# Altium integrated library NSC Switcher.IntLib: 2027 symbols (part 32 of 54)
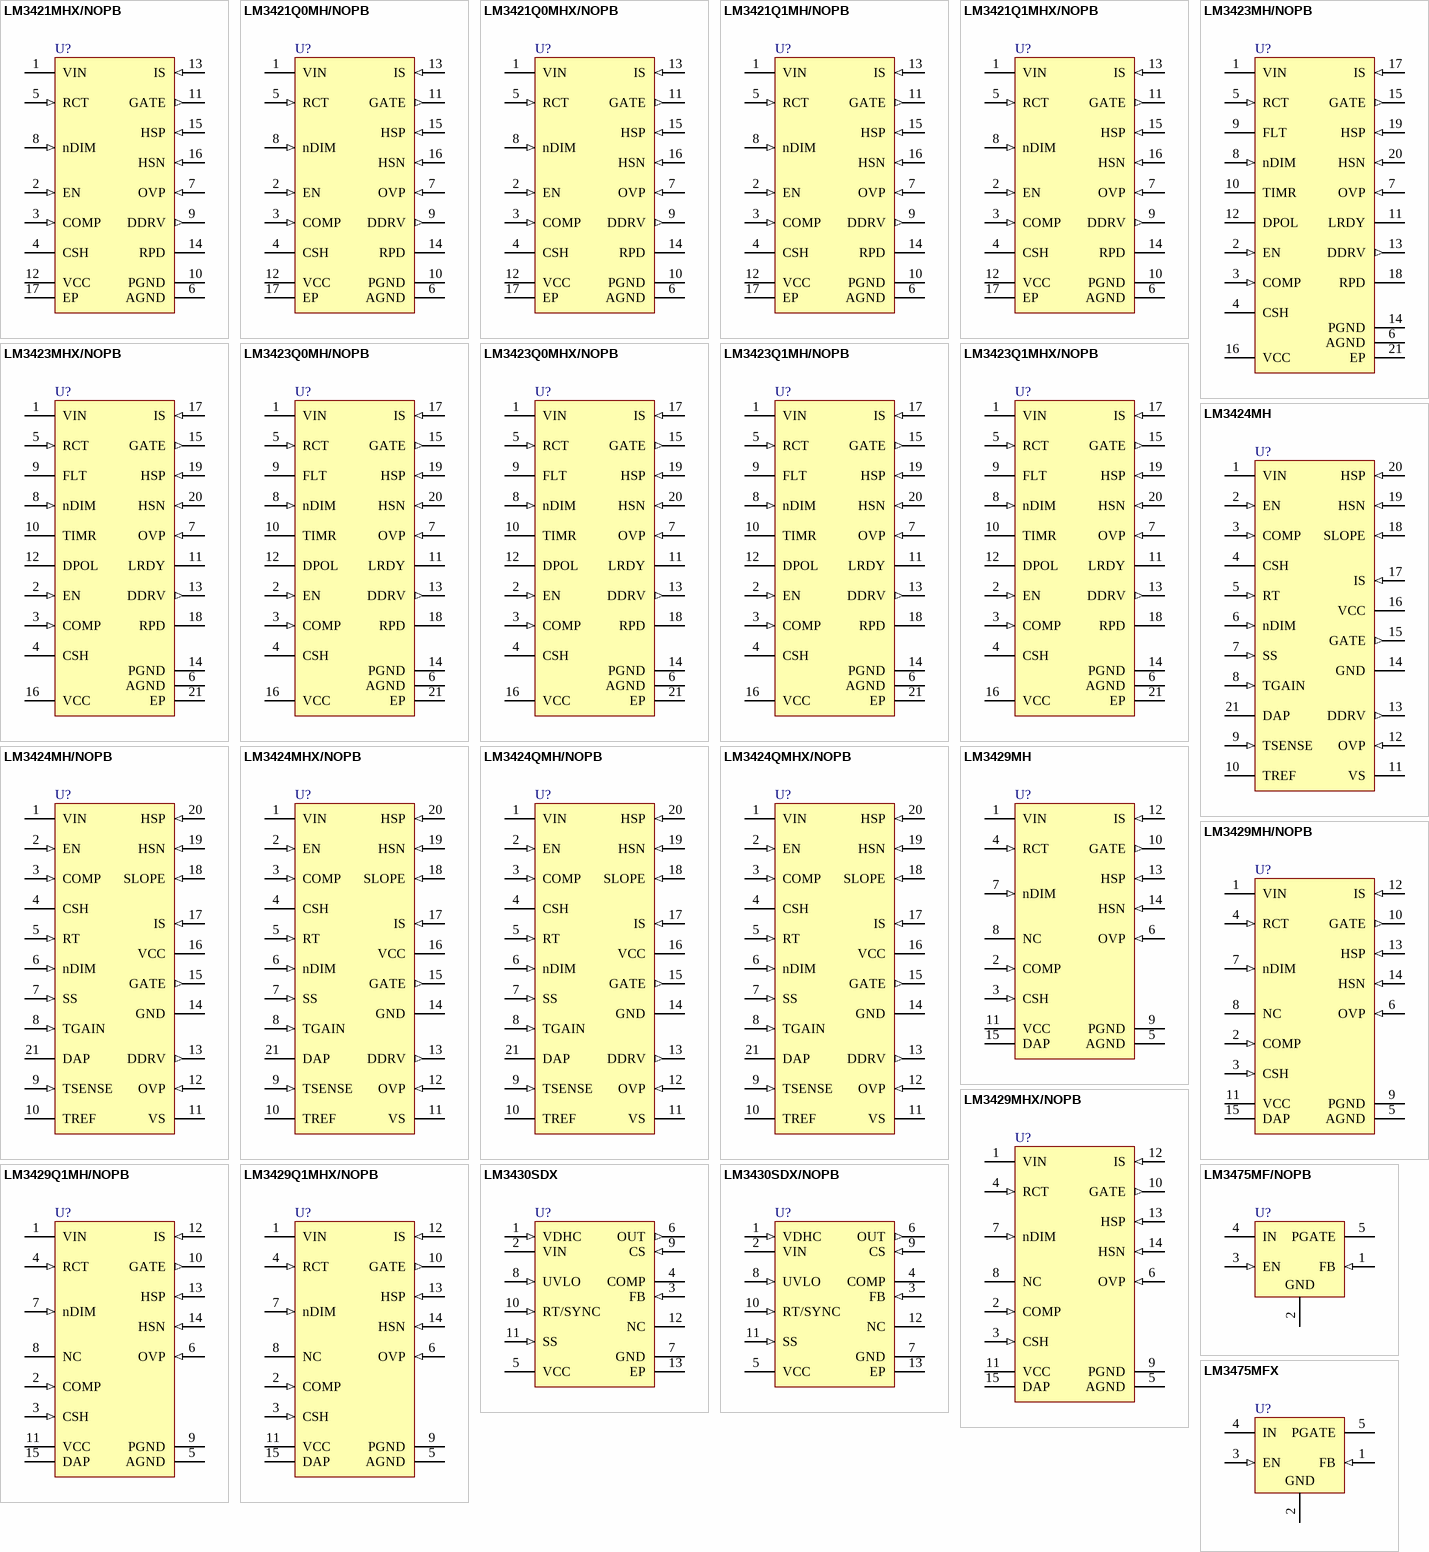
[diagram p94: symbols LM3421MHX/NOPB to LM3475MFX]

## LM3424MHX/NOPB
designator U?
Constant Current N-Channel Controller with Thermal Foldback for Driving LEDs, 20-pin TSSOP-EP, Pb-Free; PartNumber: LM3424MHX/NOPB; Manufacturer: National Semiconductor; PackageTopMarking: NSUZXYTT*LM3424*MH; PowerWise: Y; CompType: Switcher; Published: 1-Mar-2010; DatasheetVersion: Oct-2009; PackageVersion: revC, Jul-2006; PackageReference: MXA20A; Publisher: Altium Limited; PackageDescription: Molded TSSOP, Jedec, 6.5 x 4.4 x 0.9mm Body, 20 Lead, 0.65mm Pitch, Exposed Pad; Supplier 1: Digi-Key; Supplier Part Number 1: LM3424MHX-ND; RoHS: Y; PinCount: 20; Code_JEDEC: MO-153-ACT; ComponentLink1Description: LM3424 Datasheet; ComponentLink1URL: http://www.national.com/ds/LM/LM3424.pdf; ComponentLink2Description: LM3424 Web Page; ComponentLink2URL: http://www.national.com/pf/LM/LM3424.html; ComponentLink3Description: MXA20A Package Page; ComponentLink3URL: http://www.national.com/packaging/folders/mxa20a.html
footprint MXA20A_N (TSOP, 20-Leads, Body 6.5x4.4mm, Pitch 0.65mm, Exposed Pad, IPC Medium Density)
footprint MXA20A_L (TSOP, 20-Leads, Body 6.5x4.4mm, Pitch 0.65mm, Exposed Pad, IPC High Density)
footprint MXA20A_M (TSOP, 20-Leads, Body 6.5x4.4mm, Pitch 0.65mm, Exposed Pad, IPC Low Density)
pins: 1 VIN (power), 2 EN (in), 3 COMP (in), 4 CSH, 5 RT (in), 6 nDIM (in), 7 SS (in), 8 TGAIN (in), 9 TSENSE (in), 10 TREF, 11 VS (power), 12 OVP (in), 13 DDRV (out), 14 GND (power), 15 GATE (out), 16 VCC (power), 17 IS (in), 18 SLOPE (in), 19 HSN (in), 20 HSP (in), 21 DAP (power)

## LM3424QMH/NOPB
designator U?
Constant Current N-Channel Controller with Thermal Foldback for Driving LEDs, 20-pin TSSOP-EP, Pb-Free; PartNumber: LM3424QMH/NOPB; Manufacturer: National Semiconductor; PackageTopMarking: NSUZXYTT*LM3424*QMH; PowerWise: Y; CompType: Switcher; Published: 1-Mar-2010; DatasheetVersion: Oct-2009; PackageVersion: revC, Jul-2006; PackageReference: MXA20A; Publisher: Altium Limited; PackageDescription: Molded TSSOP, Jedec, 6.5 x 4.4 x 0.9mm Body, 20 Lead, 0.65mm Pitch, Exposed Pad; Supplier 1: Digi-Key; Supplier Part Number 1: LM3424QMH-ND; RoHS: Y; PinCount: 20; Code_JEDEC: MO-153-ACT; ComponentLink1Description: LM3424 Datasheet; ComponentLink1URL: http://www.national.com/ds/LM/LM3424.pdf; ComponentLink2Description: LM3424 Web Page; ComponentLink2URL: http://www.national.com/pf/LM/LM3424.html; ComponentLink3Description: MXA20A Package Page; ComponentLink3URL: http://www.national.com/packaging/folders/mxa20a.html
footprint MXA20A_N (TSOP, 20-Leads, Body 6.5x4.4mm, Pitch 0.65mm, Exposed Pad, IPC Medium Density)
footprint MXA20A_L (TSOP, 20-Leads, Body 6.5x4.4mm, Pitch 0.65mm, Exposed Pad, IPC High Density)
footprint MXA20A_M (TSOP, 20-Leads, Body 6.5x4.4mm, Pitch 0.65mm, Exposed Pad, IPC Low Density)
pins: 1 VIN (power), 2 EN (in), 3 COMP (in), 4 CSH, 5 RT (in), 6 nDIM (in), 7 SS (in), 8 TGAIN (in), 9 TSENSE (in), 10 TREF, 11 VS (power), 12 OVP (in), 13 DDRV (out), 14 GND (power), 15 GATE (out), 16 VCC (power), 17 IS (in), 18 SLOPE (in), 19 HSN (in), 20 HSP (in), 21 DAP (power)

## LM3424QMHX/NOPB
designator U?
Constant Current N-Channel Controller with Thermal Foldback for Driving LEDs, 20-pin TSSOP-EP, Pb-Free; PartNumber: LM3424QMHX/NOPB; Manufacturer: National Semiconductor; PackageTopMarking: NSUZXYTT*LM3424*QMH; PowerWise: Y; CompType: Switcher; Published: 1-Mar-2010; DatasheetVersion: Oct-2009; PackageVersion: revC, Jul-2006; PackageReference: MXA20A; Publisher: Altium Limited; PackageDescription: Molded TSSOP, Jedec, 6.5 x 4.4 x 0.9mm Body, 20 Lead, 0.65mm Pitch, Exposed Pad; Supplier 1: Digi-Key; Supplier Part Number 1: LM3424QMHX-ND; RoHS: Y; PinCount: 20; Code_JEDEC: MO-153-ACT; ComponentLink1Description: LM3424 Datasheet; ComponentLink1URL: http://www.national.com/ds/LM/LM3424.pdf; ComponentLink2Description: LM3424 Web Page; ComponentLink2URL: http://www.national.com/pf/LM/LM3424.html; ComponentLink3Description: MXA20A Package Page; ComponentLink3URL: http://www.national.com/packaging/folders/mxa20a.html
footprint MXA20A_N (TSOP, 20-Leads, Body 6.5x4.4mm, Pitch 0.65mm, Exposed Pad, IPC Medium Density)
footprint MXA20A_L (TSOP, 20-Leads, Body 6.5x4.4mm, Pitch 0.65mm, Exposed Pad, IPC High Density)
footprint MXA20A_M (TSOP, 20-Leads, Body 6.5x4.4mm, Pitch 0.65mm, Exposed Pad, IPC Low Density)
pins: 1 VIN (power), 2 EN (in), 3 COMP (in), 4 CSH, 5 RT (in), 6 nDIM (in), 7 SS (in), 8 TGAIN (in), 9 TSENSE (in), 10 TREF, 11 VS (power), 12 OVP (in), 13 DDRV (out), 14 GND (power), 15 GATE (out), 16 VCC (power), 17 IS (in), 18 SLOPE (in), 19 HSN (in), 20 HSP (in), 21 DAP (power)

## LM3429MH
designator U?
N-Channel Controller for Constant Current LED Drivers, 14-pin TSSOP-EP; PartNumber: LM3429MH; Manufacturer: National Semiconductor; PackageTopMarking: NSUZXYTT*LM3429*MH; PowerWise: Y; CompType: Switcher; Published: 9-Oct-2009; DatasheetVersion: Jan-2010; PackageVersion: revA, Feb-2003; PackageReference: MXA14A; Publisher: Altium Limited; PackageDescription: Molded TSSOP, JEDEC, Exposed Pad, 5.0 x 4.4 x 0.9mm Body, 14 Lead, 0.65mm Pitch; Supplier 1: Farnell; Supplier Part Number 1: 1778585; RoHS: Y; PinCount: 14; Code_JEDEC: MO-153-ABT-1; ComponentLink1Description: LM3429 Datasheet; ComponentLink1URL: http://www.national.com/ds/LM/LM3429.pdf; ComponentLink2Description: LM3429 Web Page; ComponentLink2URL: http://www.national.com/pf/LM/LM3429.html; ComponentLink3Description: MXA14A Package Page; ComponentLink3URL: http://www.national.com/packaging/folders/mxa14a.html
footprint MXA14A_N (TSOP, 14-Leads, Body 5x4.4mm, Pitch 0.65mm, Exposed Pad, IPC Medium Density)
footprint MXA14A_L (TSOP, 14-Leads, Body 5x4.4mm, Pitch 0.65mm, Exposed Pad, IPC High Density)
footprint MXA14A_M (TSOP, 14-Leads, Body 5x4.4mm, Pitch 0.65mm, Exposed Pad, IPC Low Density)
pins: 1 VIN (power), 2 COMP (in), 3 CSH (in), 4 RCT (in), 5 AGND (power), 6 OVP (in), 7 nDIM (in), 8 NC, 9 PGND (power), 10 GATE (out), 11 VCC (power), 12 IS (in), 13 HSP (in), 14 HSN (in), 15 DAP (power)

## LM3429MH/NOPB
designator U?
N-Channel Controller for Constant Current LED Drivers, 14-pin TSSOP-EP, Pb-Free; PartNumber: LM3429MH/NOPB; Manufacturer: National Semiconductor; PackageTopMarking: NSUZXYTT*LM3429*MH; PowerWise: Y; CompType: Switcher; Published: 1-Mar-2010; DatasheetVersion: Jan-2010; PackageVersion: revA, Feb-2003; PackageReference: MXA14A; Publisher: Altium Limited; PackageDescription: Molded TSSOP, JEDEC, Exposed Pad, 5.0 x 4.4 x 0.9mm Body, 14 Lead, 0.65mm Pitch; Supplier 1: Digi-Key; Supplier Part Number 1: LM3429MH-ND; Supplier 2: Farnell; Supplier Part Number 2: 1736513; RoHS: Y; PinCount: 14; Code_JEDEC: MO-153-ABT-1; ComponentLink1Description: LM3429 Datasheet; ComponentLink1URL: http://www.national.com/ds/LM/LM3429.pdf; ComponentLink2Description: LM3429 Web Page; ComponentLink2URL: http://www.national.com/pf/LM/LM3429.html; ComponentLink3Description: MXA14A Package Page; ComponentLink3URL: http://www.national.com/packaging/folders/mxa14a.html
footprint MXA14A_N (TSOP, 14-Leads, Body 5x4.4mm, Pitch 0.65mm, Exposed Pad, IPC Medium Density)
footprint MXA14A_L (TSOP, 14-Leads, Body 5x4.4mm, Pitch 0.65mm, Exposed Pad, IPC High Density)
footprint MXA14A_M (TSOP, 14-Leads, Body 5x4.4mm, Pitch 0.65mm, Exposed Pad, IPC Low Density)
pins: 1 VIN (power), 2 COMP (in), 3 CSH (in), 4 RCT (in), 5 AGND (power), 6 OVP (in), 7 nDIM (in), 8 NC, 9 PGND (power), 10 GATE (out), 11 VCC (power), 12 IS (in), 13 HSP (in), 14 HSN (in), 15 DAP (power)

## LM3429MHX/NOPB
designator U?
N-Channel Controller for Constant Current LED Drivers, 14-pin TSSOP-EP, Pb-Free; PartNumber: LM3429MHX/NOPB; Manufacturer: National Semiconductor; PackageTopMarking: NSUZXYTT*LM3429*MH; PowerWise: Y; CompType: Switcher; Published: 1-Mar-2010; DatasheetVersion: Jan-2010; PackageVersion: revA, Feb-2003; PackageReference: MXA14A; Publisher: Altium Limited; PackageDescription: Molded TSSOP, JEDEC, Exposed Pad, 5.0 x 4.4 x 0.9mm Body, 14 Lead, 0.65mm Pitch; Supplier 1: Digi-Key; Supplier Part Number 1: LM3429MHX-ND; RoHS: Y; PinCount: 14; Code_JEDEC: MO-153-ABT-1; ComponentLink1Description: LM3429 Datasheet; ComponentLink1URL: http://www.national.com/ds/LM/LM3429.pdf; ComponentLink2Description: LM3429 Web Page; ComponentLink2URL: http://www.national.com/pf/LM/LM3429.html; ComponentLink3Description: MXA14A Package Page; ComponentLink3URL: http://www.national.com/packaging/folders/mxa14a.html
footprint MXA14A_N (TSOP, 14-Leads, Body 5x4.4mm, Pitch 0.65mm, Exposed Pad, IPC Medium Density)
footprint MXA14A_L (TSOP, 14-Leads, Body 5x4.4mm, Pitch 0.65mm, Exposed Pad, IPC High Density)
footprint MXA14A_M (TSOP, 14-Leads, Body 5x4.4mm, Pitch 0.65mm, Exposed Pad, IPC Low Density)
pins: 1 VIN (power), 2 COMP (in), 3 CSH (in), 4 RCT (in), 5 AGND (power), 6 OVP (in), 7 nDIM (in), 8 NC, 9 PGND (power), 10 GATE (out), 11 VCC (power), 12 IS (in), 13 HSP (in), 14 HSN (in), 15 DAP (power)

## LM3429Q1MH/NOPB
designator U?
N-Channel Controller for Constant Current LED Drivers, 14-pin TSSOP-EP, Pb-Free; PartNumber: LM3429Q1MH/NOPB; Manufacturer: National Semiconductor; PackageTopMarking: NSUZXYTT*LM3429*Q1MH; PowerWise: N; CompType: Switcher; Published: 1-Mar-2010; DatasheetVersion: Jan-2010; PackageVersion: revA, Feb-2003; PackageReference: MXA14A; Publisher: Altium Limited; PackageDescription: Molded TSSOP, JEDEC, Exposed Pad, 5.0 x 4.4 x 0.9mm Body, 14 Lead, 0.65mm Pitch; Supplier 1: Digi-Key; Supplier Part Number 1: LM3429Q1MH-ND; Supplier 2: Farnell; Supplier Part Number 2: 1793521; RoHS: Y; PinCount: 14; Code_JEDEC: MO-153-ABT-1; ComponentLink1Description: LM3429 Datasheet; ComponentLink1URL: http://www.national.com/ds/LM/LM3429.pdf; ComponentLink2Description: LM3429 Web Page; ComponentLink2URL: http://www.national.com/pf/LM/LM3429.html; ComponentLink3Description: MXA14A Package Page; ComponentLink3URL: http://www.national.com/packaging/folders/mxa14a.html
footprint MXA14A_N (TSOP, 14-Leads, Body 5x4.4mm, Pitch 0.65mm, Exposed Pad, IPC Medium Density)
footprint MXA14A_L (TSOP, 14-Leads, Body 5x4.4mm, Pitch 0.65mm, Exposed Pad, IPC High Density)
footprint MXA14A_M (TSOP, 14-Leads, Body 5x4.4mm, Pitch 0.65mm, Exposed Pad, IPC Low Density)
pins: 1 VIN (power), 2 COMP (in), 3 CSH (in), 4 RCT (in), 5 AGND (power), 6 OVP (in), 7 nDIM (in), 8 NC, 9 PGND (power), 10 GATE (out), 11 VCC (power), 12 IS (in), 13 HSP (in), 14 HSN (in), 15 DAP (power)

## LM3429Q1MHX/NOPB
designator U?
N-Channel Controller for Constant Current LED Drivers, 14-pin TSSOP-EP, Pb-Free; PartNumber: LM3429Q1MHX/NOPB; Manufacturer: National Semiconductor; PackageTopMarking: NSUZXYTT*LM3429*Q1MH; PowerWise: N; CompType: Switcher; Published: 1-Mar-2010; DatasheetVersion: Jan-2010; PackageVersion: revA, Feb-2003; PackageReference: MXA14A; Publisher: Altium Limited; PackageDescription: Molded TSSOP, JEDEC, Exposed Pad, 5.0 x 4.4 x 0.9mm Body, 14 Lead, 0.65mm Pitch; Supplier 1: Digi-Key; Supplier Part Number 1: LM3429Q1MHX-ND; RoHS: Y; PinCount: 14; Code_JEDEC: MO-153-ABT-1; ComponentLink1Description: LM3429 Datasheet; ComponentLink1URL: http://www.national.com/ds/LM/LM3429.pdf; ComponentLink2Description: LM3429 Web Page; ComponentLink2URL: http://www.national.com/pf/LM/LM3429.html; ComponentLink3Description: MXA14A Package Page; ComponentLink3URL: http://www.national.com/packaging/folders/mxa14a.html
footprint MXA14A_N (TSOP, 14-Leads, Body 5x4.4mm, Pitch 0.65mm, Exposed Pad, IPC Medium Density)
footprint MXA14A_L (TSOP, 14-Leads, Body 5x4.4mm, Pitch 0.65mm, Exposed Pad, IPC High Density)
footprint MXA14A_M (TSOP, 14-Leads, Body 5x4.4mm, Pitch 0.65mm, Exposed Pad, IPC Low Density)
pins: 1 VIN (power), 2 COMP (in), 3 CSH (in), 4 RCT (in), 5 AGND (power), 6 OVP (in), 7 nDIM (in), 8 NC, 9 PGND (power), 10 GATE (out), 11 VCC (power), 12 IS (in), 13 HSP (in), 14 HSN (in), 15 DAP (power)

## LM3430SDX
designator U?
Boost Controller for LED Backlighting, 12-pin LLP; PartNumber: LM3430SDX; Manufacturer: National Semiconductor; PackageTopMarking: ZXYTT*L3430; PowerWise: Y; CompType: Switcher; Published: 1-Mar-2010; DatasheetVersion: Jan-2007; PackageVersion: revB, Jul-2008; PackageReference: SDF12A; Publisher: Altium Limited; PackageDescription: LLP, Plastic, Dual, 3 x 3 x 0.8mm Body, 12 Lead, 0.4mm Pitch, No Pullback; RoHS: N; PinCount: 12; ComponentLink1Description: LM3430 Datasheet; ComponentLink1URL: http://www.national.com/ds/LM/LM3430.pdf; ComponentLink2Description: LM3430 Web Page; ComponentLink2URL: http://www.national.com/pf/LM/LM3430.html; ComponentLink3Description: SDF12A Package Page; ComponentLink3URL: http://www.national.com/packaging/folders/sdf12a.html
footprint SDF12A (SON, 12-Leads, Body 3x3mm, Pitch 0.4mm, NSC Recommended)
pins: 1 VDHC (in), 2 VIN (power), 3 FB (in), 4 COMP, 5 VCC (power), 6 OUT (out), 7 GND (power), 8 UVLO (in), 9 CS (in), 10 RT/SYNC (in), 11 SS (in), 12 NC, 13 EP (power)

## LM3430SDX/NOPB
designator U?
Boost Controller for LED Backlighting, 12-pin LLP, Pb-Free; PartNumber: LM3430SDX/NOPB; Manufacturer: National Semiconductor; PackageTopMarking: ZXYTT*L3430; PowerWise: Y; CompType: Switcher; Published: 1-Mar-2010; DatasheetVersion: Jan-2007; PackageVersion: revB, Jul-2008; PackageReference: SDF12A; Publisher: Altium Limited; PackageDescription: LLP, Plastic, Dual, 3 x 3 x 0.8mm Body, 12 Lead, 0.4mm Pitch, No Pullback; Supplier 1: Digi-Key; Supplier Part Number 1: LM3430SDX-ND; RoHS: Y; PinCount: 12; ComponentLink1Description: LM3430 Datasheet; ComponentLink1URL: http://www.national.com/ds/LM/LM3430.pdf; ComponentLink2Description: LM3430 Web Page; ComponentLink2URL: http://www.national.com/pf/LM/LM3430.html; ComponentLink3Description: SDF12A Package Page; ComponentLink3URL: http://www.national.com/packaging/folders/sdf12a.html
footprint SDF12A (SON, 12-Leads, Body 3x3mm, Pitch 0.4mm, NSC Recommended)
pins: 1 VDHC (in), 2 VIN (power), 3 FB (in), 4 COMP, 5 VCC (power), 6 OUT (out), 7 GND (power), 8 UVLO (in), 9 CS (in), 10 RT/SYNC (in), 11 SS (in), 12 NC, 13 EP (power)

## LM3475MF/NOPB
designator U?
Hysteretic PFET Buck Controller, 5-pin SOT-23, Pb-Free; PartNumber: LM3475MF/NOPB; Manufacturer: National Semiconductor; PackageTopMarking: S65B*XTT; PowerWise: N; CompType: Switcher; Published: 1-Mar-2010; DatasheetVersion: Jan-2005; PackageVersion: revD, Aug-2008; PackageReference: MF05A; Publisher: Altium Limited; PackageDescription: Molded SOT-23, .115 x .063 x .040 in Body, 5 Lead, .0375 in Pitch; Supplier 1: Digi-Key; Supplier Part Number 1: LM3475MFTR-ND; Supplier 2: Digi-Key; Supplier Part Number 2: LM3475MFCT-ND; Supplier 3: Digi-Key; Supplier Part Number 3: LM3475MFDKR-ND; RoHS: Y; PinCount: 5; ComponentLink1Description: LM3475 Datasheet; ComponentLink1URL: http://www.national.com/ds/LM/LM3475.pdf; ComponentLink2Description: LM3475 Web Page; ComponentLink2URL: http://www.national.com/pf/LM/LM3475.html; ComponentLink3Description: MF05A Package Page; ComponentLink3URL: http://www.national.com/packaging/folders/mf05a.html
footprint MF05A_N (SOT23, 5-Leads, Body 2.9x1.6mm, Pitch 0.95mm, Lead Span 2.8mm, IPC Medium Density)
footprint MF05A_L (SOT23, 5-Leads, Body 2.9x1.6mm, Pitch 0.95mm, Lead Span 2.8mm, IPC High Density)
footprint MF05A_M (SOT23, 5-Leads, Body 2.9x1.6mm, Pitch 0.95mm, Lead Span 2.8mm, IPC Low Density)
pins: 1 FB (in), 2 GND (power), 3 EN (in), 4 IN (power), 5 PGATE (power)

## LM3475MFX
designator U?
Hysteretic PFET Buck Controller, 5-pin SOT-23; PartNumber: LM3475MFX; Manufacturer: National Semiconductor; PackageTopMarking: S65B*XTT; PowerWise: N; CompType: Switcher; Published: 1-Mar-2010; DatasheetVersion: Jan-2005; PackageVersion: revD, Aug-2008; PackageReference: MF05A; Publisher: Altium Limited; PackageDescription: Molded SOT-23, .115 x .063 x .040 in Body, 5 Lead, .0375 in Pitch; RoHS: N; PinCount: 5; ComponentLink1Description: LM3475 Datasheet; ComponentLink1URL: http://www.national.com/ds/LM/LM3475.pdf; ComponentLink2Description: LM3475 Web Page; ComponentLink2URL: http://www.national.com/pf/LM/LM3475.html; ComponentLink3Description: MF05A Package Page; ComponentLink3URL: http://www.national.com/packaging/folders/mf05a.html
footprint MF05A_N (SOT23, 5-Leads, Body 2.9x1.6mm, Pitch 0.95mm, Lead Span 2.8mm, IPC Medium Density)
footprint MF05A_L (SOT23, 5-Leads, Body 2.9x1.6mm, Pitch 0.95mm, Lead Span 2.8mm, IPC High Density)
footprint MF05A_M (SOT23, 5-Leads, Body 2.9x1.6mm, Pitch 0.95mm, Lead Span 2.8mm, IPC Low Density)
pins: 1 FB (in), 2 GND (power), 3 EN (in), 4 IN (power), 5 PGATE (power)

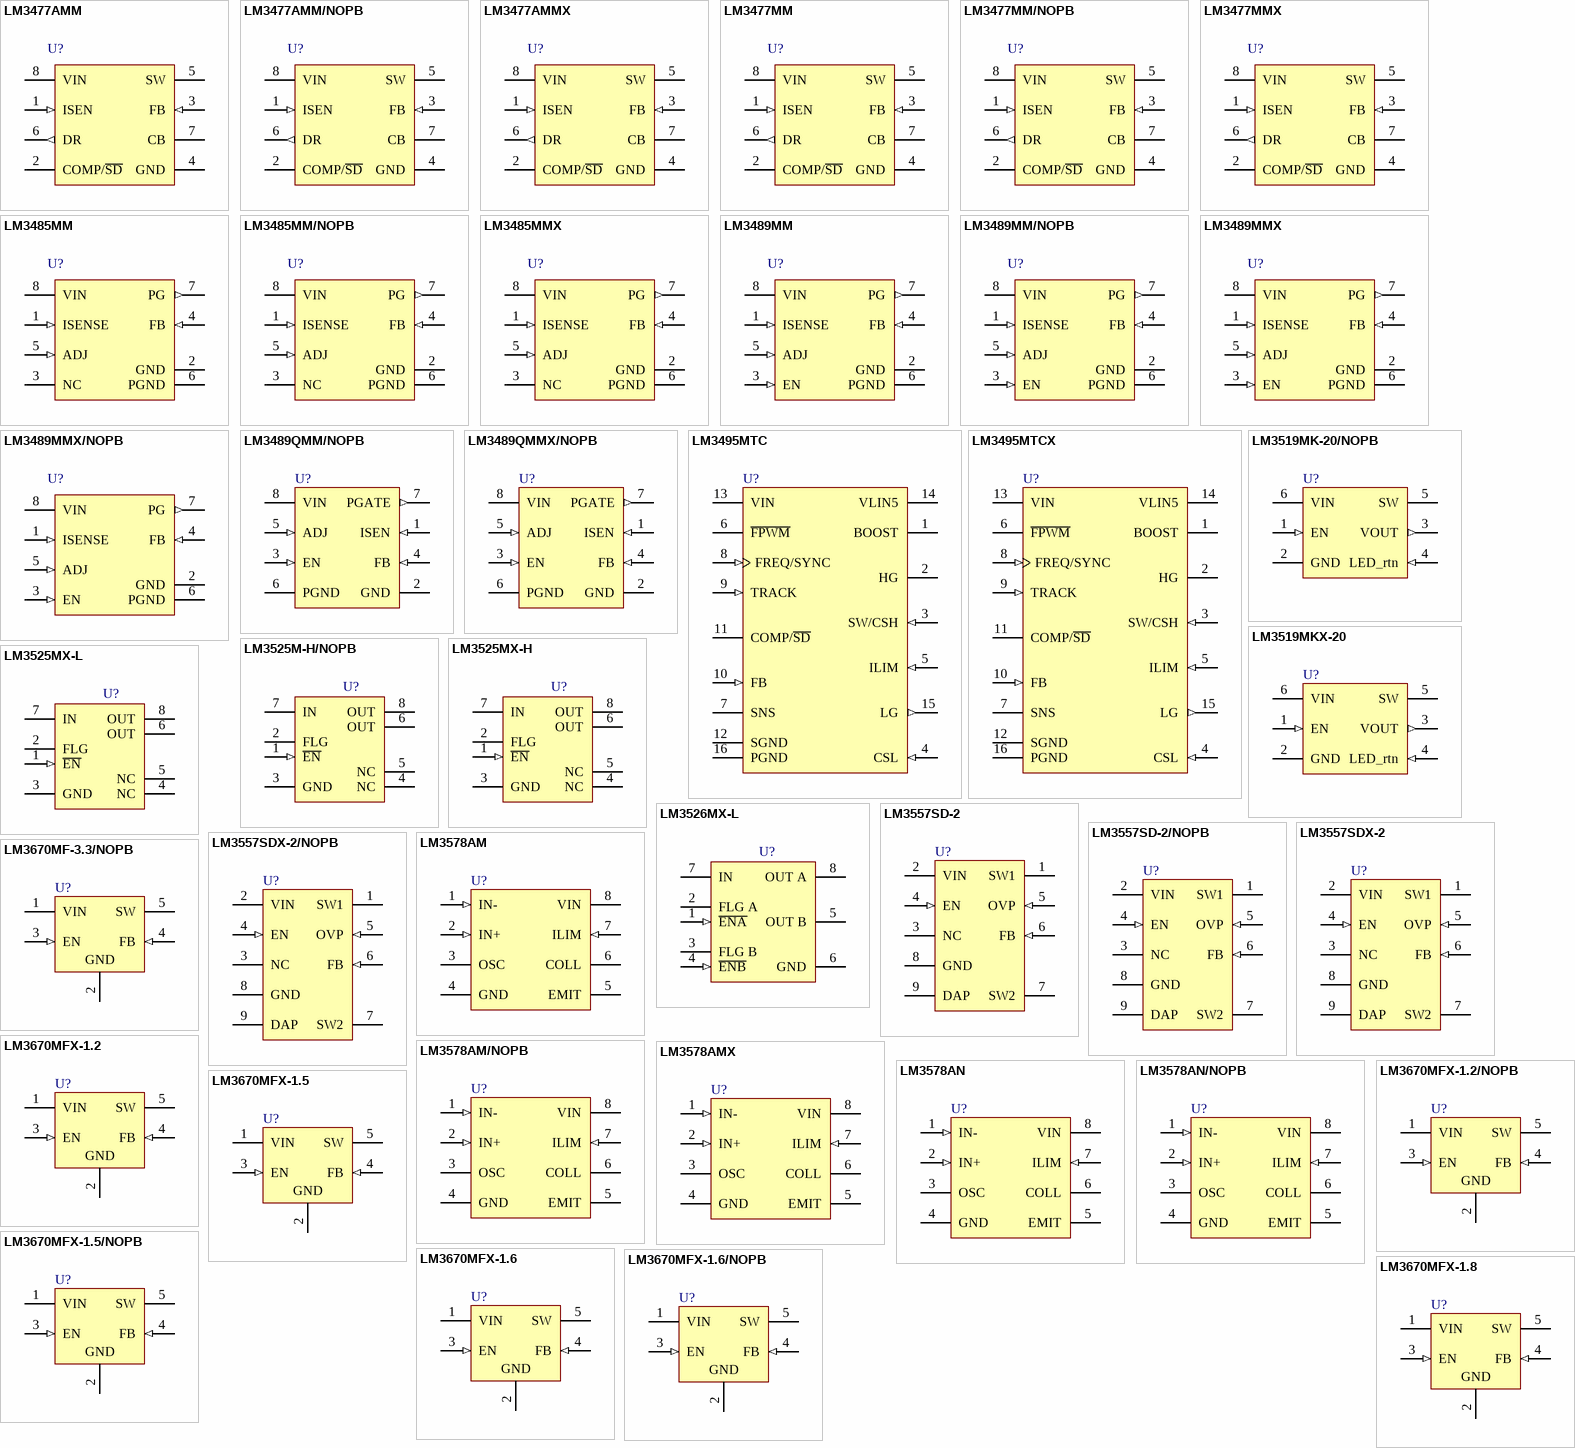
[diagram p35: symbols LM3477AMM to LM3670MFX-1.8]

## LM3477AMM
designator U?
High Efficiency High-Side N-Channel Controller for Switching Regulator, 8-pin MSOP; PartNumber: LM3477AMM; Manufacturer: National Semiconductor; PackageTopMarking: ZXTT*S13A; PowerWise: N; CompType: Switcher; Published: 4-Dec-2008; DatasheetVersion: Jul-2004; PackageVersion: revF, Apr-2008; PackageReference: MUA08A; Publisher: Altium Limited; PackageDescription: MINI SOIC, .118 x .118 x .034in, 8 Lead, .0256in Pitch; Supplier 1: Farnell; Supplier Part Number 1: 1312567; RoHS: N; PinCount: 8; Code_JEDEC: MO-187-AA; ComponentLink1Description: LM3477 Datasheet; ComponentLink1URL: http://www.national.com/ds/LM/LM3477.pdf; ComponentLink2Description: LM3477 Web Page; ComponentLink2URL: http://www.national.com/pf/LM/LM3477.html; ComponentLink3Description: MUA08A Package Page; ComponentLink3URL: http://www.national.com/packaging/folders/mua08a.html
footprint MUA08A_N (TSOP, 8-Leads, Body 3x3mm, Pitch 0.65mm, IPC Medium Density)
footprint MUA08A_L (TSOP, 8-Leads, Body 3x3mm, Pitch 0.65mm, IPC High Density)
footprint MUA08A_M (TSOP, 8-Leads, Body 3x3mm, Pitch 0.65mm, IPC Low Density)
pins: 1 ISEN (in), 2 COMP/~{SD}, 3 FB (in), 4 GND (power), 5 SW (power), 6 DR (out), 7 CB, 8 VIN (power)

## LM3477AMM/NOPB
designator U?
High Efficiency High-Side N-Channel Controller for Switching Regulator, 8-pin MSOP, Pb-Free; PartNumber: LM3477AMM/NOPB; Manufacturer: National Semiconductor; PackageTopMarking: ZXTT*S13A; PowerWise: N; CompType: Switcher; Published: 1-Mar-2010; DatasheetVersion: Jul-2004; PackageVersion: revF, Apr-2008; PackageReference: MUA08A; Publisher: Altium Limited; PackageDescription: MINI SOIC, .118 x .118 x .034in, 8 Lead, .0256in Pitch; Supplier 1: Digi-Key; Supplier Part Number 1: LM3477AMMTR-ND; Supplier 2: Digi-Key; Supplier Part Number 2: LM3477AMMCT-ND; Supplier 3: Digi-Key; Supplier Part Number 3: LM3477AMMDKR-ND; Supplier 4: Farnell; Supplier Part Number 4: 1496149; RoHS: Y; PinCount: 8; Code_JEDEC: MO-187-AA; ComponentLink1Description: LM3477 Datasheet; ComponentLink1URL: http://www.national.com/ds/LM/LM3477.pdf; ComponentLink2Description: LM3477 Web Page; ComponentLink2URL: http://www.national.com/pf/LM/LM3477.html; ComponentLink3Description: MUA08A Package Page; ComponentLink3URL: http://www.national.com/packaging/folders/mua08a.html
footprint MUA08A_N (TSOP, 8-Leads, Body 3x3mm, Pitch 0.65mm, IPC Medium Density)
footprint MUA08A_L (TSOP, 8-Leads, Body 3x3mm, Pitch 0.65mm, IPC High Density)
footprint MUA08A_M (TSOP, 8-Leads, Body 3x3mm, Pitch 0.65mm, IPC Low Density)
pins: 1 ISEN (in), 2 COMP/~{SD}, 3 FB (in), 4 GND (power), 5 SW (power), 6 DR (out), 7 CB, 8 VIN (power)

## LM3477AMMX
designator U?
High Efficiency High-Side N-Channel Controller for Switching Regulator, 8-pin MSOP; PartNumber: LM3477AMMX; Manufacturer: National Semiconductor; PackageTopMarking: ZXTT*S13A; PowerWise: N; CompType: Switcher; Published: 1-Mar-2010; DatasheetVersion: Jul-2004; PackageVersion: revF, Apr-2008; PackageReference: MUA08A; Publisher: Altium Limited; PackageDescription: MINI SOIC, .118 x .118 x .034in, 8 Lead, .0256in Pitch; RoHS: N; PinCount: 8; Code_JEDEC: MO-187-AA; ComponentLink1Description: LM3477 Datasheet; ComponentLink1URL: http://www.national.com/ds/LM/LM3477.pdf; ComponentLink2Description: LM3477 Web Page; ComponentLink2URL: http://www.national.com/pf/LM/LM3477.html; ComponentLink3Description: MUA08A Package Page; ComponentLink3URL: http://www.national.com/packaging/folders/mua08a.html
footprint MUA08A_N (TSOP, 8-Leads, Body 3x3mm, Pitch 0.65mm, IPC Medium Density)
footprint MUA08A_L (TSOP, 8-Leads, Body 3x3mm, Pitch 0.65mm, IPC High Density)
footprint MUA08A_M (TSOP, 8-Leads, Body 3x3mm, Pitch 0.65mm, IPC Low Density)
pins: 1 ISEN (in), 2 COMP/~{SD}, 3 FB (in), 4 GND (power), 5 SW (power), 6 DR (out), 7 CB, 8 VIN (power)

## LM3477MM
designator U?
High Efficiency High-Side N-Channel Controller for Switching Regulator, 8-pin MSOP; PartNumber: LM3477MM; Manufacturer: National Semiconductor; PackageTopMarking: ZXTT*S13B; PowerWise: N; CompType: Switcher; Published: 4-Dec-2008; DatasheetVersion: Jul-2004; PackageVersion: revF, Apr-2008; PackageReference: MUA08A; Publisher: Altium Limited; PackageDescription: MINI SOIC, .118 x .118 x .034in, 8 Lead, .0256in Pitch; Supplier 1: Farnell; Supplier Part Number 1: 9779191; RoHS: N; PinCount: 8; Code_JEDEC: MO-187-AA; ComponentLink1Description: LM3477 Datasheet; ComponentLink1URL: http://www.national.com/ds/LM/LM3477.pdf; ComponentLink2Description: LM3477 Web Page; ComponentLink2URL: http://www.national.com/pf/LM/LM3477.html; ComponentLink3Description: MUA08A Package Page; ComponentLink3URL: http://www.national.com/packaging/folders/mua08a.html
footprint MUA08A_N (TSOP, 8-Leads, Body 3x3mm, Pitch 0.65mm, IPC Medium Density)
footprint MUA08A_L (TSOP, 8-Leads, Body 3x3mm, Pitch 0.65mm, IPC High Density)
footprint MUA08A_M (TSOP, 8-Leads, Body 3x3mm, Pitch 0.65mm, IPC Low Density)
pins: 1 ISEN (in), 2 COMP/~{SD}, 3 FB (in), 4 GND (power), 5 SW (power), 6 DR (out), 7 CB, 8 VIN (power)

## LM3477MM/NOPB
designator U?
High Efficiency High-Side N-Channel Controller for Switching Regulator, 8-pin MSOP, Pb-Free; PartNumber: LM3477MM/NOPB; Manufacturer: National Semiconductor; PackageTopMarking: ZXTT*S13B; PowerWise: N; CompType: Switcher; Published: 1-Mar-2010; DatasheetVersion: Jul-2004; PackageVersion: revF, Apr-2008; PackageReference: MUA08A; Publisher: Altium Limited; PackageDescription: MINI SOIC, .118 x .118 x .034in, 8 Lead, .0256in Pitch; Supplier 1: Digi-Key; Supplier Part Number 1: LM3477MMTR-ND; Supplier 2: Digi-Key; Supplier Part Number 2: LM3477MMCT-ND; Supplier 3: Digi-Key; Supplier Part Number 3: LM3477MMDKR-ND; RoHS: Y; PinCount: 8; Code_JEDEC: MO-187-AA; ComponentLink1Description: LM3477 Datasheet; ComponentLink1URL: http://www.national.com/ds/LM/LM3477.pdf; ComponentLink2Description: LM3477 Web Page; ComponentLink2URL: http://www.national.com/pf/LM/LM3477.html; ComponentLink3Description: MUA08A Package Page; ComponentLink3URL: http://www.national.com/packaging/folders/mua08a.html
footprint MUA08A_N (TSOP, 8-Leads, Body 3x3mm, Pitch 0.65mm, IPC Medium Density)
footprint MUA08A_L (TSOP, 8-Leads, Body 3x3mm, Pitch 0.65mm, IPC High Density)
footprint MUA08A_M (TSOP, 8-Leads, Body 3x3mm, Pitch 0.65mm, IPC Low Density)
pins: 1 ISEN (in), 2 COMP/~{SD}, 3 FB (in), 4 GND (power), 5 SW (power), 6 DR (out), 7 CB, 8 VIN (power)

## LM3477MMX
designator U?
High Efficiency High-Side N-Channel Controller for Switching Regulator, 8-pin MSOP; PartNumber: LM3477MMX; Manufacturer: National Semiconductor; PackageTopMarking: ZXTT*S13B; PowerWise: N; CompType: Switcher; Published: 1-Mar-2010; DatasheetVersion: Jul-2004; PackageVersion: revF, Apr-2008; PackageReference: MUA08A; Publisher: Altium Limited; PackageDescription: MINI SOIC, .118 x .118 x .034in, 8 Lead, .0256in Pitch; RoHS: N; PinCount: 8; Code_JEDEC: MO-187-AA; ComponentLink1Description: LM3477 Datasheet; ComponentLink1URL: http://www.national.com/ds/LM/LM3477.pdf; ComponentLink2Description: LM3477 Web Page; ComponentLink2URL: http://www.national.com/pf/LM/LM3477.html; ComponentLink3Description: MUA08A Package Page; ComponentLink3URL: http://www.national.com/packaging/folders/mua08a.html
footprint MUA08A_N (TSOP, 8-Leads, Body 3x3mm, Pitch 0.65mm, IPC Medium Density)
footprint MUA08A_L (TSOP, 8-Leads, Body 3x3mm, Pitch 0.65mm, IPC High Density)
footprint MUA08A_M (TSOP, 8-Leads, Body 3x3mm, Pitch 0.65mm, IPC Low Density)
pins: 1 ISEN (in), 2 COMP/~{SD}, 3 FB (in), 4 GND (power), 5 SW (power), 6 DR (out), 7 CB, 8 VIN (power)

## LM3485MM
designator U?
Hysteretic PFET Buck Controller, 8-pin MSOP; PartNumber: LM3485MM; Manufacturer: National Semiconductor; PackageTopMarking: ZXTT*S29B; PowerWise: N; CompType: Switcher; Published: 4-Dec-2008; DatasheetVersion: Sep-2009; PackageVersion: revF, Apr-2008; PackageReference: MUA08A; Publisher: Altium Limited; PackageDescription: MINI SOIC, .118 x .118 x .034in, 8 Lead, .0256in Pitch; Supplier 1: Farnell; Supplier Part Number 1: 1312569; RoHS: N; PinCount: 8; Code_JEDEC: MO-187-AA; ComponentLink1Description: LM3485 Datasheet; ComponentLink1URL: http://www.national.com/ds/LM/LM3485.pdf; ComponentLink2Description: LM3485 Web Page; ComponentLink2URL: http://www.national.com/pf/LM/LM3485.html; ComponentLink3Description: MUA08A Package Page; ComponentLink3URL: http://www.national.com/packaging/folders/mua08a.html
footprint MUA08A_N (TSOP, 8-Leads, Body 3x3mm, Pitch 0.65mm, IPC Medium Density)
footprint MUA08A_L (TSOP, 8-Leads, Body 3x3mm, Pitch 0.65mm, IPC High Density)
footprint MUA08A_M (TSOP, 8-Leads, Body 3x3mm, Pitch 0.65mm, IPC Low Density)
pins: 1 ISENSE (in), 2 GND (power), 3 NC, 4 FB (in), 5 ADJ (in), 6 PGND (power), 7 PG (out), 8 VIN (power)

## LM3485MM/NOPB
designator U?
Hysteretic PFET Buck Controller, 8-pin MSOP, Pb-Free; PartNumber: LM3485MM/NOPB; Manufacturer: National Semiconductor; PackageTopMarking: ZXTT*S29B; PowerWise: N; CompType: Switcher; Published: 1-Mar-2010; DatasheetVersion: Sep-2009; PackageVersion: revF, Apr-2008; PackageReference: MUA08A; Publisher: Altium Limited; PackageDescription: MINI SOIC, .118 x .118 x .034in, 8 Lead, .0256in Pitch; Supplier 1: Digi-Key; Supplier Part Number 1: LM3485MMTR-ND; Supplier 2: Digi-Key; Supplier Part Number 2: LM3485MMCT-ND; Supplier 3: Digi-Key; Supplier Part Number 3: LM3485MMDKR-ND; Supplier 4: Farnell; Supplier Part Number 4: 1469251; RoHS: Y; PinCount: 8; Code_JEDEC: MO-187-AA; ComponentLink1Description: LM3485 Datasheet; ComponentLink1URL: http://www.national.com/ds/LM/LM3485.pdf; ComponentLink2Description: LM3485 Web Page; ComponentLink2URL: http://www.national.com/pf/LM/LM3485.html; ComponentLink3Description: MUA08A Package Page; ComponentLink3URL: http://www.national.com/packaging/folders/mua08a.html
footprint MUA08A_N (TSOP, 8-Leads, Body 3x3mm, Pitch 0.65mm, IPC Medium Density)
footprint MUA08A_L (TSOP, 8-Leads, Body 3x3mm, Pitch 0.65mm, IPC High Density)
footprint MUA08A_M (TSOP, 8-Leads, Body 3x3mm, Pitch 0.65mm, IPC Low Density)
pins: 1 ISENSE (in), 2 GND (power), 3 NC, 4 FB (in), 5 ADJ (in), 6 PGND (power), 7 PG (out), 8 VIN (power)

## LM3485MMX
designator U?
Hysteretic PFET Buck Controller, 8-pin MSOP; PartNumber: LM3485MMX; Manufacturer: National Semiconductor; PackageTopMarking: ZXTT*S29B; PowerWise: N; CompType: Switcher; Published: 1-Mar-2010; DatasheetVersion: Sep-2009; PackageVersion: revF, Apr-2008; PackageReference: MUA08A; Publisher: Altium Limited; PackageDescription: MINI SOIC, .118 x .118 x .034in, 8 Lead, .0256in Pitch; RoHS: N; PinCount: 8; Code_JEDEC: MO-187-AA; ComponentLink1Description: LM3485 Datasheet; ComponentLink1URL: http://www.national.com/ds/LM/LM3485.pdf; ComponentLink2Description: LM3485 Web Page; ComponentLink2URL: http://www.national.com/pf/LM/LM3485.html; ComponentLink3Description: MUA08A Package Page; ComponentLink3URL: http://www.national.com/packaging/folders/mua08a.html
footprint MUA08A_N (TSOP, 8-Leads, Body 3x3mm, Pitch 0.65mm, IPC Medium Density)
footprint MUA08A_L (TSOP, 8-Leads, Body 3x3mm, Pitch 0.65mm, IPC High Density)
footprint MUA08A_M (TSOP, 8-Leads, Body 3x3mm, Pitch 0.65mm, IPC Low Density)
pins: 1 ISENSE (in), 2 GND (power), 3 NC, 4 FB (in), 5 ADJ (in), 6 PGND (power), 7 PG (out), 8 VIN (power)

## LM3489MM
designator U?
Hysteretic PFET Buck Controller with Enable Pin, 8-pin MSOP; PartNumber: LM3489MM; Manufacturer: National Semiconductor; PackageTopMarking: ZXTT*SKSB; PowerWise: N; CompType: Switcher; Published: 4-Dec-2008; DatasheetVersion: Jun-2008; PackageVersion: revF, Apr-2008; PackageReference: MUA08A; Publisher: Altium Limited; PackageDescription: MINI SOIC, .118 x .118 x .034in, 8 Lead, .0256in Pitch; Supplier 1: Farnell; Supplier Part Number 1: 1312570; RoHS: N; PinCount: 8; Code_JEDEC: MO-187-AA; ComponentLink1Description: LM3489 Datasheet; ComponentLink1URL: http://www.national.com/ds/LM/LM3489.pdf; ComponentLink2Description: LM3489 Web Page; ComponentLink2URL: http://www.national.com/pf/LM/LM3489.html; ComponentLink3Description: MUA08A Package Page; ComponentLink3URL: http://www.national.com/packaging/folders/mua08a.html
footprint MUA08A_N (TSOP, 8-Leads, Body 3x3mm, Pitch 0.65mm, IPC Medium Density)
footprint MUA08A_L (TSOP, 8-Leads, Body 3x3mm, Pitch 0.65mm, IPC High Density)
footprint MUA08A_M (TSOP, 8-Leads, Body 3x3mm, Pitch 0.65mm, IPC Low Density)
pins: 1 ISENSE (in), 2 GND (power), 3 EN (in), 4 FB (in), 5 ADJ (in), 6 PGND (power), 7 PG (out), 8 VIN (power)

## LM3489MM/NOPB
designator U?
Hysteretic PFET Buck Controller with Enable Pin, 8-pin MSOP, Pb-Free; PartNumber: LM3489MM/NOPB; Manufacturer: National Semiconductor; PackageTopMarking: ZXTT*SKSB; PowerWise: N; CompType: Switcher; Published: 1-Mar-2010; DatasheetVersion: Jun-2008; PackageVersion: revF, Apr-2008; PackageReference: MUA08A; Publisher: Altium Limited; PackageDescription: MINI SOIC, .118 x .118 x .034in, 8 Lead, .0256in Pitch; Supplier 1: Digi-Key; Supplier Part Number 1: LM3489MMTR-ND; Supplier 2: Digi-Key; Supplier Part Number 2: LM3489MMCT-ND; Supplier 3: Digi-Key; Supplier Part Number 3: LM3489MMDKR-ND; Supplier 4: Farnell; Supplier Part Number 4: 1496266; RoHS: Y; PinCount: 8; Code_JEDEC: MO-187-AA; ComponentLink1Description: LM3489 Datasheet; ComponentLink1URL: http://www.national.com/ds/LM/LM3489.pdf; ComponentLink2Description: LM3489 Web Page; ComponentLink2URL: http://www.national.com/pf/LM/LM3489.html; ComponentLink3Description: MUA08A Package Page; ComponentLink3URL: http://www.national.com/packaging/folders/mua08a.html
footprint MUA08A_N (TSOP, 8-Leads, Body 3x3mm, Pitch 0.65mm, IPC Medium Density)
footprint MUA08A_L (TSOP, 8-Leads, Body 3x3mm, Pitch 0.65mm, IPC High Density)
footprint MUA08A_M (TSOP, 8-Leads, Body 3x3mm, Pitch 0.65mm, IPC Low Density)
pins: 1 ISENSE (in), 2 GND (power), 3 EN (in), 4 FB (in), 5 ADJ (in), 6 PGND (power), 7 PG (out), 8 VIN (power)

## LM3489MMX
designator U?
Hysteretic PFET Buck Controller with Enable Pin, 8-pin MSOP; PartNumber: LM3489MMX; Manufacturer: National Semiconductor; PackageTopMarking: ZXTT*SKSB; PowerWise: N; CompType: Switcher; Published: 1-Mar-2010; DatasheetVersion: Jun-2008; PackageVersion: revF, Apr-2008; PackageReference: MUA08A; Publisher: Altium Limited; PackageDescription: MINI SOIC, .118 x .118 x .034in, 8 Lead, .0256in Pitch; RoHS: N; PinCount: 8; Code_JEDEC: MO-187-AA; ComponentLink1Description: LM3489 Datasheet; ComponentLink1URL: http://www.national.com/ds/LM/LM3489.pdf; ComponentLink2Description: LM3489 Web Page; ComponentLink2URL: http://www.national.com/pf/LM/LM3489.html; ComponentLink3Description: MUA08A Package Page; ComponentLink3URL: http://www.national.com/packaging/folders/mua08a.html
footprint MUA08A_N (TSOP, 8-Leads, Body 3x3mm, Pitch 0.65mm, IPC Medium Density)
footprint MUA08A_L (TSOP, 8-Leads, Body 3x3mm, Pitch 0.65mm, IPC High Density)
footprint MUA08A_M (TSOP, 8-Leads, Body 3x3mm, Pitch 0.65mm, IPC Low Density)
pins: 1 ISENSE (in), 2 GND (power), 3 EN (in), 4 FB (in), 5 ADJ (in), 6 PGND (power), 7 PG (out), 8 VIN (power)

## LM3489MMX/NOPB
designator U?
Hysteretic PFET Buck Controller with Enable Pin, 8-pin MSOP, Pb-Free; PartNumber: LM3489MMX/NOPB; Manufacturer: National Semiconductor; PackageTopMarking: ZXTT*SKSB; PowerWise: N; CompType: Switcher; Published: 1-Mar-2010; DatasheetVersion: Jun-2008; PackageVersion: revF, Apr-2008; PackageReference: MUA08A; Publisher: Altium Limited; PackageDescription: MINI SOIC, .118 x .118 x .034in, 8 Lead, .0256in Pitch; Supplier 1: Digi-Key; Supplier Part Number 1: LM3489MMX-ND; RoHS: Y; PinCount: 8; Code_JEDEC: MO-187-AA; ComponentLink1Description: LM3489 Datasheet; ComponentLink1URL: http://www.national.com/ds/LM/LM3489.pdf; ComponentLink2Description: LM3489 Web Page; ComponentLink2URL: http://www.national.com/pf/LM/LM3489.html; ComponentLink3Description: MUA08A Package Page; ComponentLink3URL: http://www.national.com/packaging/folders/mua08a.html
footprint MUA08A_N (TSOP, 8-Leads, Body 3x3mm, Pitch 0.65mm, IPC Medium Density)
footprint MUA08A_L (TSOP, 8-Leads, Body 3x3mm, Pitch 0.65mm, IPC High Density)
footprint MUA08A_M (TSOP, 8-Leads, Body 3x3mm, Pitch 0.65mm, IPC Low Density)
pins: 1 ISENSE (in), 2 GND (power), 3 EN (in), 4 FB (in), 5 ADJ (in), 6 PGND (power), 7 PG (out), 8 VIN (power)

## LM3489QMM/NOPB
designator U?
Hysteretic PFET Buck Controller with Enable Pin, 8-pin MSOP, Pb-Free; PartNumber: LM3489QMM/NOPB; Manufacturer: National Semiconductor; PackageTopMarking: ZXTT*STEB; PowerWise: N; CompType: Switcher; Published: 1-Mar-2010; DatasheetVersion: Jun-2008; PackageVersion: revF, Apr-2008; PackageReference: MUA08A; Publisher: Altium Limited; PackageDescription: MINI SOIC, .118 x .118 x .034in, 8 Lead, .0256in Pitch; Supplier 1: Digi-Key; Supplier Part Number 1: LM3489QMMTR-ND; Supplier 2: Digi-Key; Supplier Part Number 2: LM3489QMMCT-ND; Supplier 3: Digi-Key; Supplier Part Number 3: LM3489QMMDKR-ND; RoHS: Y; PinCount: 8; Code_JEDEC: MO-187-AA; ComponentLink1Description: LM3489 Datasheet; ComponentLink1URL: http://www.national.com/ds/LM/LM3489.pdf; ComponentLink2Description: LM3489 Web Page; ComponentLink2URL: http://www.national.com/pf/LM/LM3489.html; ComponentLink3Description: MUA08A Package Page; ComponentLink3URL: http://www.national.com/packaging/folders/mua08a.html
footprint MUA08A_N (TSOP, 8-Leads, Body 3x3mm, Pitch 0.65mm, IPC Medium Density)
footprint MUA08A_L (TSOP, 8-Leads, Body 3x3mm, Pitch 0.65mm, IPC High Density)
footprint MUA08A_M (TSOP, 8-Leads, Body 3x3mm, Pitch 0.65mm, IPC Low Density)
pins: 1 ISEN (in), 2 GND (power), 3 EN (in), 4 FB (in), 5 ADJ (in), 6 PGND (power), 7 PGATE (out), 8 VIN (power)

## LM3489QMMX/NOPB
designator U?
Hysteretic PFET Buck Controller with Enable Pin, 8-pin MSOP, Pb-Free; PartNumber: LM3489QMMX/NOPB; Manufacturer: National Semiconductor; PackageTopMarking: ZXTT*STEB; PowerWise: N; CompType: Switcher; Published: 1-Mar-2010; DatasheetVersion: Jun-2008; PackageVersion: revF, Apr-2008; PackageReference: MUA08A; Publisher: Altium Limited; PackageDescription: MINI SOIC, .118 x .118 x .034in, 8 Lead, .0256in Pitch; Supplier 1: Digi-Key; Supplier Part Number 1: LM3489QMMX-ND; RoHS: Y; PinCount: 8; Code_JEDEC: MO-187-AA; ComponentLink1Description: LM3489 Datasheet; ComponentLink1URL: http://www.national.com/ds/LM/LM3489.pdf; ComponentLink2Description: LM3489 Web Page; ComponentLink2URL: http://www.national.com/pf/LM/LM3489.html; ComponentLink3Description: MUA08A Package Page; ComponentLink3URL: http://www.national.com/packaging/folders/mua08a.html
footprint MUA08A_N (TSOP, 8-Leads, Body 3x3mm, Pitch 0.65mm, IPC Medium Density)
footprint MUA08A_L (TSOP, 8-Leads, Body 3x3mm, Pitch 0.65mm, IPC High Density)
footprint MUA08A_M (TSOP, 8-Leads, Body 3x3mm, Pitch 0.65mm, IPC Low Density)
pins: 1 ISEN (in), 2 GND (power), 3 EN (in), 4 FB (in), 5 ADJ (in), 6 PGND (power), 7 PGATE (out), 8 VIN (power)

## LM3495MTC
designator U?
Emulated Peak Current Mode Buck Controller for Low Output Voltage, 16-pin TSSOP; PartNumber: LM3495MTC; Manufacturer: National Semiconductor; PackageTopMarking: NSUZXYTT*LM3495*MTC; PowerWise: Y; CompType: Switcher; Published: 4-Dec-2008; DatasheetVersion: Nov-2007; PackageVersion: revD, Jun-2003; PackageReference: MTC16; Publisher: Altium Limited; PackageDescription: Molded TSSOP, Jedec, 5 x 4.4 x 0.9mm Body, 16 Lead, 0.65mm Pitch; Supplier 1: Farnell; Supplier Part Number 1: 1286749; RoHS: N; PinCount: 16; Code_JEDEC: MO-153-AB; ComponentLink1Description: LM3495 Datasheet; ComponentLink1URL: http://www.national.com/ds/LM/LM3495.pdf; ComponentLink2Description: LM3495 Web Page; ComponentLink2URL: http://www.national.com/pf/LM/LM3495.html; ComponentLink3Description: MTC16 Package Page; ComponentLink3URL: http://www.national.com/packaging/folders/mtc16.html
footprint MTC16_N (TSOP, 16-Leads, Body 5x4.4mm, Pitch 0.65mm, IPC Medium Density)
footprint MTC16_L (TSOP, 16-Leads, Body 5x4.4mm, Pitch 0.65mm, IPC High Density)
footprint MTC16_M (TSOP, 16-Leads, Body 5x4.4mm, Pitch 0.65mm, IPC Low Density)
pins: 1 BOOST (power), 2 HG (power), 3 SW/CSH (in), 4 CSL (in), 5 ILIM (in), 6 ~{FPWM}, 7 SNS, 8 FREQ/SYNC (in), 9 TRACK (in), 10 FB (in), 11 COMP/~{SD}, 12 SGND (power), 13 VIN (power), 14 VLIN5 (power), 15 LG (out), 16 PGND (power)

## LM3495MTCX
designator U?
Emulated Peak Current Mode Buck Controller for Low Output Voltage, 16-pin TSSOP; PartNumber: LM3495MTCX; Manufacturer: National Semiconductor; PackageTopMarking: NSUZXYTT*LM3495*MTC; PowerWise: Y; CompType: Switcher; Published: 1-Mar-2010; DatasheetVersion: Nov-2007; PackageVersion: revD, Jun-2003; PackageReference: MTC16; Publisher: Altium Limited; PackageDescription: Molded TSSOP, Jedec, 5 x 4.4 x 0.9mm Body, 16 Lead, 0.65mm Pitch; RoHS: N; PinCount: 16; Code_JEDEC: MO-153-AB; ComponentLink1Description: LM3495 Datasheet; ComponentLink1URL: http://www.national.com/ds/LM/LM3495.pdf; ComponentLink2Description: LM3495 Web Page; ComponentLink2URL: http://www.national.com/pf/LM/LM3495.html; ComponentLink3Description: MTC16 Package Page; ComponentLink3URL: http://www.national.com/packaging/folders/mtc16.html
footprint MTC16_N (TSOP, 16-Leads, Body 5x4.4mm, Pitch 0.65mm, IPC Medium Density)
footprint MTC16_L (TSOP, 16-Leads, Body 5x4.4mm, Pitch 0.65mm, IPC High Density)
footprint MTC16_M (TSOP, 16-Leads, Body 5x4.4mm, Pitch 0.65mm, IPC Low Density)
pins: 1 BOOST (power), 2 HG (power), 3 SW/CSH (in), 4 CSL (in), 5 ILIM (in), 6 ~{FPWM}, 7 SNS, 8 FREQ/SYNC (in), 9 TRACK (in), 10 FB (in), 11 COMP/~{SD}, 12 SGND (power), 13 VIN (power), 14 VLIN5 (power), 15 LG (out), 16 PGND (power)

## LM3519MK-20/NOPB
designator U?
High Frequency Boost White LED Driver with High-Speed PWM Brightness Control, 6-pin Tiny SOT23, Pb-Free; PartNumber: LM3519MK-20/NOPB; Manufacturer: National Semiconductor; PackageTopMarking: D52B*XTT; PowerWise: Y; CompType: Switcher; Published: 1-Mar-2010; DatasheetVersion: Sep-2005; PackageVersion: revE, Nov-2008; PackageReference: MK06A; Publisher: Altium Limited; PackageDescription: Molded TSOT, 2.97 x 1.65 x 0.87mm Body, 6 Lead, 0.95mm Pitch; Supplier 1: Digi-Key; Supplier Part Number 1: LM3519MK-20TR-ND; Supplier 2: Digi-Key; Supplier Part Number 2: LM3519MK-20CT-ND; Supplier 3: Digi-Key; Supplier Part Number 3: LM3519MK-20DKR-ND; Supplier 4: Farnell; Supplier Part Number 4: 1675339; RoHS: Y; PinCount: 6; Code_JEDEC: MO-193-AA; Code_IPC: SOT26A-6; ComponentLink1Description: LM3519 Datasheet; ComponentLink1URL: http://www.national.com/ds/LM/LM3519.pdf; ComponentLink2Description: LM3519 Web Page; ComponentLink2URL: http://www.national.com/pf/LM/LM3519.html; ComponentLink3Description: MK06A Package Page; ComponentLink3URL: http://www.national.com/packaging/folders/mk06a.html
footprint MK06A_N (SOT23, 6-Leads, Body 3.0x1.7mm, Pitch 0.95mm, Lead Span 2.9mm, IPC Medium Density)
footprint MK06A_L (SOT23, 6-Leads, Body 3.0x1.7mm, Pitch 0.95mm, Lead Span 2.9mm, IPC High Density)
footprint MK06A_M (SOT23, 6-Leads, Body 3.0x1.7mm, Pitch 0.95mm, Lead Span 2.9mm, IPC Low Density)
pins: 1 EN (in), 2 GND (power), 3 VOUT (out), 4 LED_rtn (in), 5 SW (power), 6 VIN (power)

## LM3519MKX-20
designator U?
High Frequency Boost White LED Driver with High-Speed PWM Brightness Control, 6-pin Tiny SOT23; PartNumber: LM3519MKX-20; Manufacturer: National Semiconductor; PackageTopMarking: D52B*XTT; PowerWise: Y; CompType: Switcher; Published: 1-Mar-2010; DatasheetVersion: Sep-2005; PackageVersion: revE, Nov-2008; PackageReference: MK06A; Publisher: Altium Limited; PackageDescription: Molded TSOT, 2.97 x 1.65 x 0.87mm Body, 6 Lead, 0.95mm Pitch; RoHS: N; PinCount: 6; Code_JEDEC: MO-193-AA; Code_IPC: SOT26A-6; ComponentLink1Description: LM3519 Datasheet; ComponentLink1URL: http://www.national.com/ds/LM/LM3519.pdf; ComponentLink2Description: LM3519 Web Page; ComponentLink2URL: http://www.national.com/pf/LM/LM3519.html; ComponentLink3Description: MK06A Package Page; ComponentLink3URL: http://www.national.com/packaging/folders/mk06a.html
footprint MK06A_N (SOT23, 6-Leads, Body 3.0x1.7mm, Pitch 0.95mm, Lead Span 2.9mm, IPC Medium Density)
footprint MK06A_L (SOT23, 6-Leads, Body 3.0x1.7mm, Pitch 0.95mm, Lead Span 2.9mm, IPC High Density)
footprint MK06A_M (SOT23, 6-Leads, Body 3.0x1.7mm, Pitch 0.95mm, Lead Span 2.9mm, IPC Low Density)
pins: 1 EN (in), 2 GND (power), 3 VOUT (out), 4 LED_rtn (in), 5 SW (power), 6 VIN (power)

## LM3525M-H/NOPB
designator U?
Single Port USB Power Switch and Over-current Protection, 8-pin Narrow SOIC, Pb-Free; PartNumber: LM3525M-H/NOPB; Manufacturer: National Semiconductor; PackageTopMarking: NSZXTT*3525*M-H; PowerWise: N; CompType: Switcher; Published: 1-Mar-2010; DatasheetVersion: Mar-2005; PackageVersion: revM, May-2009; PackageReference: M08A; Publisher: Altium Limited; PackageDescription: SOIC Narrow, 4.9 x 3.9 x 1.45mm, 8 Lead, 1.27mm Pitch; Supplier 1: Digi-Key; Supplier Part Number 1: LM3525M-H-ND; Supplier 2: Farnell; Supplier Part Number 2: 1496154; RoHS: Y; PinCount: 8; Code_JEDEC: MS-012-AA; Code_IPC: SOIC127P600-8; ComponentLink1Description: LM3525 Datasheet; ComponentLink1URL: http://www.national.com/ds/LM/LM3525.pdf; ComponentLink2Description: LM3525 Web Page; ComponentLink2URL: http://www.national.com/pf/LM/LM3525.html; ComponentLink3Description: M08A Package Page; ComponentLink3URL: http://www.national.com/packaging/folders/m08a.html
footprint M08A_N (SOIC, 8-Leads, Body 4.9x3.9mm, Pitch 1.27mm, IPC Medium Density)
footprint M08A_L (SOIC, 8-Leads, Body 4.9x3.9mm, Pitch 1.27mm, IPC High Density)
footprint M08A_M (SOIC, 8-Leads, Body 4.9x3.9mm, Pitch 1.27mm, IPC Low Density)
pins: 1 ~{EN} (in), 2 FLG (oc), 3 GND (power), 4 NC, 5 NC, 6 OUT (power), 7 IN (power), 8 OUT (power)

## LM3525MX-H
designator U?
Single Port USB Power Switch and Over-current Protection, 8-pin Narrow SOIC; PartNumber: LM3525MX-H; Manufacturer: National Semiconductor; PackageTopMarking: NSZXTT*3525*M-H; PowerWise: N; CompType: Switcher; Published: 1-Mar-2010; DatasheetVersion: Mar-2005; PackageVersion: revM, May-2009; PackageReference: M08A; Publisher: Altium Limited; PackageDescription: SOIC Narrow, 4.9 x 3.9 x 1.45mm, 8 Lead, 1.27mm Pitch; RoHS: N; PinCount: 8; Code_JEDEC: MS-012-AA; Code_IPC: SOIC127P600-8; ComponentLink1Description: LM3525 Datasheet; ComponentLink1URL: http://www.national.com/ds/LM/LM3525.pdf; ComponentLink2Description: LM3525 Web Page; ComponentLink2URL: http://www.national.com/pf/LM/LM3525.html; ComponentLink3Description: M08A Package Page; ComponentLink3URL: http://www.national.com/packaging/folders/m08a.html
footprint M08A_N (SOIC, 8-Leads, Body 4.9x3.9mm, Pitch 1.27mm, IPC Medium Density)
footprint M08A_L (SOIC, 8-Leads, Body 4.9x3.9mm, Pitch 1.27mm, IPC High Density)
footprint M08A_M (SOIC, 8-Leads, Body 4.9x3.9mm, Pitch 1.27mm, IPC Low Density)
pins: 1 ~{EN} (in), 2 FLG (oc), 3 GND (power), 4 NC, 5 NC, 6 OUT (power), 7 IN (power), 8 OUT (power)

## LM3525MX-L
designator U?
Single Port USB Power Switch and Over-current Protection, 8-pin Narrow SOIC; PartNumber: LM3525MX-L; Manufacturer: National Semiconductor; PackageTopMarking: NSZXTT*3525*M-L; PowerWise: N; CompType: Switcher; Published: 1-Mar-2010; DatasheetVersion: Mar-2005; PackageVersion: revM, May-2009; PackageReference: M08A; Publisher: Altium Limited; PackageDescription: SOIC Narrow, 4.9 x 3.9 x 1.45mm, 8 Lead, 1.27mm Pitch; RoHS: N; PinCount: 8; Code_JEDEC: MS-012-AA; Code_IPC: SOIC127P600-8; ComponentLink1Description: LM3525 Datasheet; ComponentLink1URL: http://www.national.com/ds/LM/LM3525.pdf; ComponentLink2Description: LM3525 Web Page; ComponentLink2URL: http://www.national.com/pf/LM/LM3525.html; ComponentLink3Description: M08A Package Page; ComponentLink3URL: http://www.national.com/packaging/folders/m08a.html
footprint M08A_N (SOIC, 8-Leads, Body 4.9x3.9mm, Pitch 1.27mm, IPC Medium Density)
footprint M08A_L (SOIC, 8-Leads, Body 4.9x3.9mm, Pitch 1.27mm, IPC High Density)
footprint M08A_M (SOIC, 8-Leads, Body 4.9x3.9mm, Pitch 1.27mm, IPC Low Density)
pins: 1 ~{EN} (in), 2 FLG (oc), 3 GND (power), 4 NC, 5 NC, 6 OUT (power), 7 IN (power), 8 OUT (power)

## LM3526MX-L
designator U?
Dual Port USB Power Switch and Over-current Protection, 8-pin Narrow SOIC; PartNumber: LM3526MX-L; Manufacturer: National Semiconductor; PackageTopMarking: NSZXTT*3526*M-L; PowerWise: N; CompType: Switcher; Published: 1-Mar-2010; DatasheetVersion: Mar-2005; PackageVersion: revM, May-2009; PackageReference: M08A; Publisher: Altium Limited; PackageDescription: SOIC Narrow, 4.9 x 3.9 x 1.45mm, 8 Lead, 1.27mm Pitch; RoHS: N; PinCount: 8; Code_JEDEC: MS-012-AA; Code_IPC: SOIC127P600-8; ComponentLink1Description: LM3526 Datasheet; ComponentLink1URL: http://www.national.com/ds/LM/LM3526.pdf; ComponentLink2Description: LM3526 Web Page; ComponentLink2URL: http://www.national.com/pf/LM/LM3526.html; ComponentLink3Description: M08A Package Page; ComponentLink3URL: http://www.national.com/packaging/folders/m08a.html
footprint M08A_N (SOIC, 8-Leads, Body 4.9x3.9mm, Pitch 1.27mm, IPC Medium Density)
footprint M08A_L (SOIC, 8-Leads, Body 4.9x3.9mm, Pitch 1.27mm, IPC High Density)
footprint M08A_M (SOIC, 8-Leads, Body 4.9x3.9mm, Pitch 1.27mm, IPC Low Density)
pins: 1 ~{ENA} (in), 2 FLG A (oc), 3 FLG B (oc), 4 ~{ENB} (in), 5 OUT B (power), 6 GND (power), 7 IN (power), 8 OUT A (power)

## LM3557SD-2
designator U?
Step-Up Converter for White LED Applications, 8-pin LLP; PartNumber: LM3557SD-2; Manufacturer: National Semiconductor; PackageTopMarking: ZXYTT*L147B; PowerWise: Y; CompType: Switcher; Published: 4-Dec-2008; DatasheetVersion: May-2000; PackageVersion: revA, Aug-2003; PackageReference: SDA08A; Publisher: Altium Limited; PackageDescription: LLP, Plastic, Dual, 3 x 3 x 0.8mm Body, 8 Lead, 0.5mm Pitch, No Pullback; Supplier 1: Farnell; Supplier Part Number 1: 1312582; RoHS: N; PinCount: 8; ComponentLink1Description: LM3557 Datasheet; ComponentLink1URL: http://www.national.com/ds/LM/LM3557.pdf; ComponentLink2Description: LM3557 Web Page; ComponentLink2URL: http://www.national.com/pf/LM/LM3557.html; ComponentLink3Description: SDA08A Package Page; ComponentLink3URL: http://www.national.com/packaging/folders/sda08a.html
footprint SDA08A (SON, 8-Leads, Body 3x3mm, Pitch 0.5mm, NSC Recommended)
pins: 1 SW1 (power), 2 VIN (power), 3 NC, 4 EN (in), 5 OVP (in), 6 FB (in), 7 SW2 (power), 8 GND (power), 9 DAP (power)

## LM3557SD-2/NOPB
designator U?
Step-Up Converter for White LED Applications, 8-pin LLP, Pb-Free; PartNumber: LM3557SD-2/NOPB; Manufacturer: National Semiconductor; PackageTopMarking: ZXYTT*L147B; PowerWise: Y; CompType: Switcher; Published: 1-Mar-2010; DatasheetVersion: May-2000; PackageVersion: revA, Aug-2003; PackageReference: SDA08A; Publisher: Altium Limited; PackageDescription: LLP, Plastic, Dual, 3 x 3 x 0.8mm Body, 8 Lead, 0.5mm Pitch, No Pullback; Supplier 1: Digi-Key; Supplier Part Number 1: LM3557SD-2TR-ND; Supplier 2: Digi-Key; Supplier Part Number 2: LM3557SD-2CT-ND; Supplier 3: Digi-Key; Supplier Part Number 3: LM3557SD-2DKR-ND; RoHS: Y; PinCount: 8; ComponentLink1Description: LM3557 Datasheet; ComponentLink1URL: http://www.national.com/ds/LM/LM3557.pdf; ComponentLink2Description: LM3557 Web Page; ComponentLink2URL: http://www.national.com/pf/LM/LM3557.html; ComponentLink3Description: SDA08A Package Page; ComponentLink3URL: http://www.national.com/packaging/folders/sda08a.html
footprint SDA08A (SON, 8-Leads, Body 3x3mm, Pitch 0.5mm, NSC Recommended)
pins: 1 SW1 (power), 2 VIN (power), 3 NC, 4 EN (in), 5 OVP (in), 6 FB (in), 7 SW2 (power), 8 GND (power), 9 DAP (power)

## LM3557SDX-2
designator U?
Step-Up Converter for White LED Applications, 8-pin LLP; PartNumber: LM3557SDX-2; Manufacturer: National Semiconductor; PackageTopMarking: ZXYTT*L147B; PowerWise: Y; CompType: Switcher; Published: 1-Mar-2010; DatasheetVersion: May-2000; PackageVersion: revA, Aug-2003; PackageReference: SDA08A; Publisher: Altium Limited; PackageDescription: LLP, Plastic, Dual, 3 x 3 x 0.8mm Body, 8 Lead, 0.5mm Pitch, No Pullback; RoHS: N; PinCount: 8; ComponentLink1Description: LM3557 Datasheet; ComponentLink1URL: http://www.national.com/ds/LM/LM3557.pdf; ComponentLink2Description: LM3557 Web Page; ComponentLink2URL: http://www.national.com/pf/LM/LM3557.html; ComponentLink3Description: SDA08A Package Page; ComponentLink3URL: http://www.national.com/packaging/folders/sda08a.html
footprint SDA08A (SON, 8-Leads, Body 3x3mm, Pitch 0.5mm, NSC Recommended)
pins: 1 SW1 (power), 2 VIN (power), 3 NC, 4 EN (in), 5 OVP (in), 6 FB (in), 7 SW2 (power), 8 GND (power), 9 DAP (power)